# Altium schematic symbol library TLP521-1.SchLib: 1 symbol
Pins are listed as number, name and electrical type; pins without a type are passive.

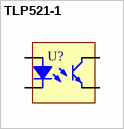
[diagram p0: symbol TLP521-1]

## TLP521-1
designator U?
pins: 1, 2, 3, 4